# Altium footprint library DIP794W53P254L1016H394Q8N.PcbLib: 1 footprints
Each footprint in its own frame and in the unit in brackets; x right, y up, seen from the top. Pads: shape width x height; smd on the part's side, far side on the other; paste and mask are expansions set on the pad; w line width, h text height; cw(c..) or ccw(c..) is an arc to the next point about the centre after c.
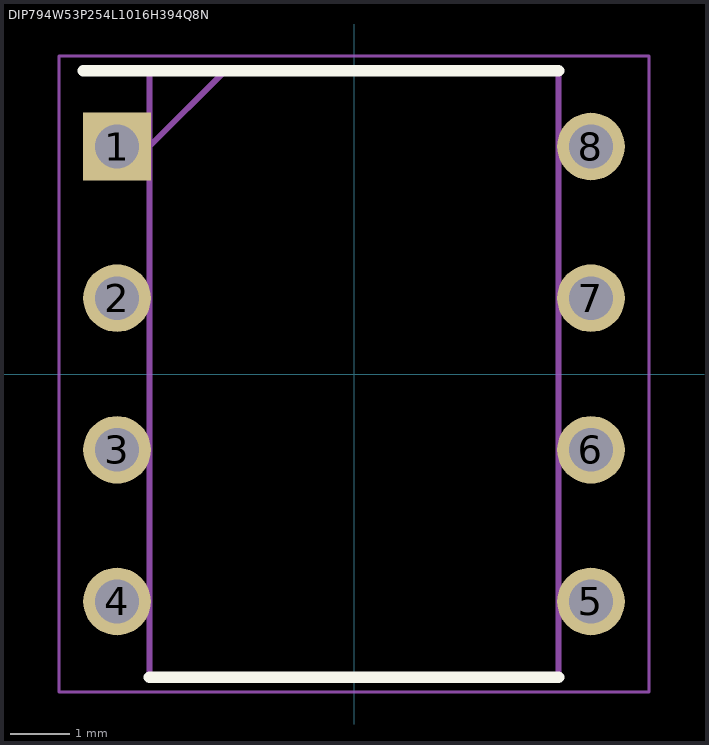
[diagram p0: the footprint, top view; thin cyan lines are the x and y axes]

## DIP794W53P254L1016H394Q8N [mil]
pads (8):
  rect 44.61x44.61 / inner round 44.61 / far side rect 44.61x44.61 hole 28.86: 1(-156.26,150)
  round 44.61 hole 28.86: 2(-156.26,50) 3(-156.26,-50) 4(-156.26,-150) 5(156.26,-150) 6(156.26,-50) 7(156.26,50) 8(156.26,150)
Top Overlay:
  lines w7.87: -178.54,200 135,200 ; -135,-200 135,-200
Mechanical 15:
  lines w3.94: -135,150 -85,200 ; -135,-200 135,-200 135,200 -135,200 -135,-200
Mechanical 20:
  lines w1.97: -194.65,-209.84 194.65,-209.84 194.65,209.84 -194.65,209.84 -194.65,-209.84